# EAGLE library part LP3906 (library IC)
National Semi LP3906 Programable Power Mangement with I2C compatible interface
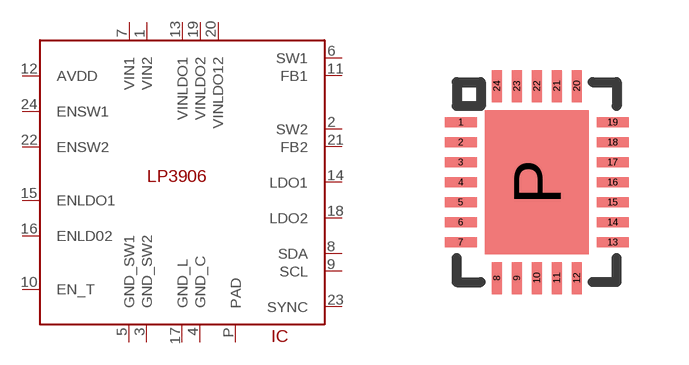
[diagram p145: symbol with the pads of LLP-24; footprint LLP-24]

Designator prefix IC

## LP3906  [LLP-24]
1  VIN2
2  SW2
3  GND_SW2
4  GND_C
5  GND_SW1
6  SW1
7  VIN1
8  SDA
9  SCL
10  EN_T
11  FB1
12  AVDD
13  VINLDO1
14  LDO1
15  ENLDO1
16  ENLD02
17  GND_L
18  LDO2
19  VINLDO2
20  VINLDO12
21  FB2
22  ENSW2
23  SYNC
24  ENSW1
P  PAD

## Footprint LLP-24 (pad centres in mm)
National Semiconductor LLP 24 package
smd 0.8 x 0.25: 1 -1.9,1.5; 2 -1.9,1; 3 -1.9,0.5; 4 -1.9,0; 5 -1.9,-0.5; 6 -1.9,-1; 7 -1.9,-1.5; 13 1.9,-1.5; 14 1.9,-1; 15 1.9,-0.5; 16 1.9,0; 17 1.9,0.5; 18 1.9,1; 19 1.9,1.5
smd 0.25 x 0.8: 8 -1,-2.4; 9 -0.5,-2.4; 10 0,-2.4; 11 0.5,-2.4; 12 1,-2.4; 20 1,2.4; 21 0.5,2.4; 22 0,2.4; 23 -0.5,2.4; 24 -1,2.4
smd 2.6 x 3.6: P 0,0